# Altium footprint library Connector-RF.PcbLib: 6 footprints
Each footprint in its own frame and in the unit in brackets; x right, y up, seen from the top. Pads: shape width x height; smd on the part's side, far side on the other; paste and mask are expansions set on the pad; w line width, h text height; cw(c..) or ccw(c..) is an arc to the next point about the centre after c.
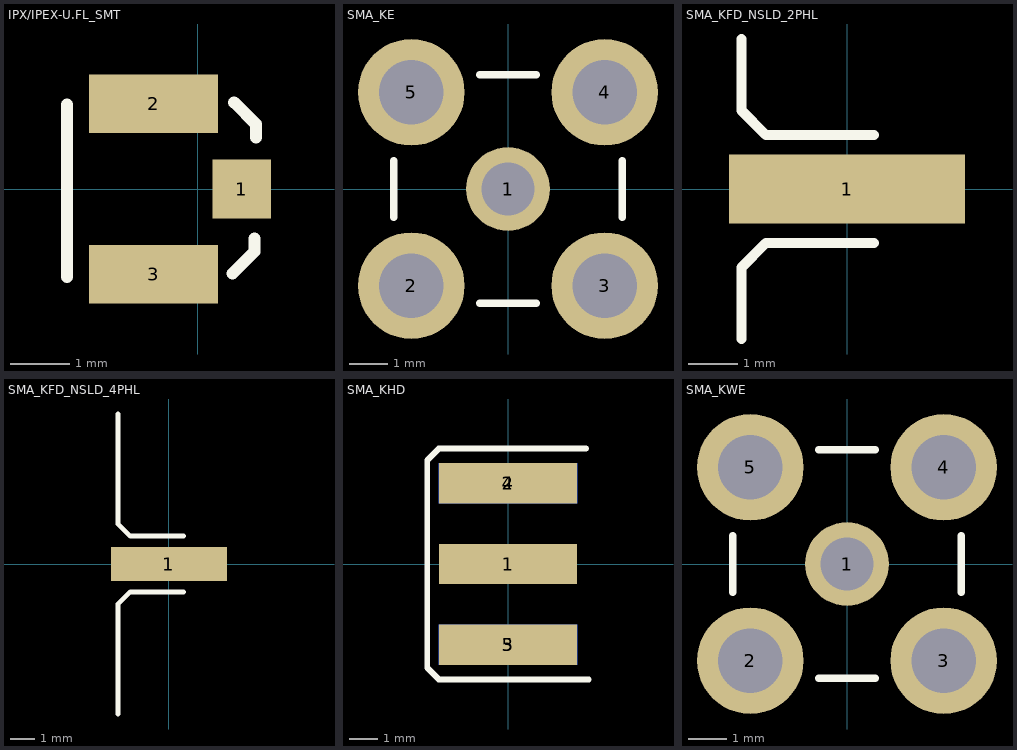
[diagram p0: the footprints below, top view; thin cyan lines are the x and y axes]

## IPX/IPEX-U.FL_SMT [mm]
pads (3):
  rrect0% 1x1 smd: 1(0.75,0)
  rect 2.2x1 smd: 2(-0.75,1.45) 3(-0.75,-1.45)
Top Overlay:
  lines w0.203: -2.223,-1.499 -2.223,1.435 ; 0.596,-1.435 0.965,-1.067 0.965,-0.838 ; 0.622,1.473 0.99,1.105 0.99,0.876
3D body "User Library-U_FL-R-SMT(10).step": height 1.25, standoff 0, extent -2.237,-1.513 0.863,1.487

## SMA_KE [mm]
pads (5):
  round 2.2 hole 1.4: 1(0,0)
  round 2.8 hole 1.7: 2(-2.54,-2.54) 3(2.54,-2.54) 4(2.54,2.54) 5(-2.54,2.54)
Top Overlay:
  lines w0.2: -3,-0.74 -3,0.74 ; -0.74,-3 0.74,-3 ; -0.74,3 0.74,3 ; 3,-0.74 3,0.74
3D body "User Library-SMA_Stehend_Amp 132134RP-1.STEP": height 9.53, standoff -3.94, extent -3.5,-3.5 3.5,3.5

## SMA_KFD_NSLD_2PHL [mm]
pads (1):
  rect 4.8x1.4 smd: 1(0,0)
Top Overlay:
  lines w0.203: -2.15,-3.05 -2.15,-1.6 -1.65,-1.1 0.55,-1.1 ; -2.15,3.05 -2.15,1.6 -1.65,1.1 0.55,1.1
3D body "60312312114616.stp": height 8.37, standoff -7.61, extent -11.95,-3.165 0.09,3.165

## SMA_KFD_NSLD_4PHL [mm]
pads (1):
  rect 4.8x1.4 smd: 1(0,0)
Top Overlay:
  lines w0.203: -2.1,-6.2 -2.1,-1.65 -1.6,-1.15 0.6,-1.15 ; -2.1,6.2 -2.1,1.65 -1.6,1.15 0.6,1.15
3D body "60312422114521.stp": height 6.98, standoff -5.71, extent -11.95,-6.35 0.05,6.35

## SMA_KHD [mm]
pads (5):
  rect 4.8x1.4 smd: 1(0,0) 2(0,2.8) 3(0,-2.8)
  rect 4.8x1.4 smd far side: 4(0,2.8) 5(0,-2.8)
Top Overlay:
  lines w0.203: 2.7,4 -2.4,4 -2.8,3.6 -2.8,-3.6 -2.4,-4 2.8,-4
3D body "60312202114513.stp": height 3.38, standoff -2.97, extent -11.9,-3.2 2.3,3.15

## SMA_KWE [mm]
pads (5):
  round 2.2 hole 1.4: 1(0,0)
  round 2.8 hole 1.7: 2(-2.54,-2.54) 3(2.54,-2.54) 4(2.54,2.54) 5(-2.54,2.54)
Top Overlay:
  lines w0.2: -3,-0.74 -3,0.74 ; -0.74,-3 0.74,-3 ; -0.74,3 0.74,3 ; 3,-0.74 3,0.74
3D body "User Library-901-143-6RFX.STEP": height 9.86, standoff -3.94, extent -11.487,-3.429 3.613,3.571